# Altium schematic symbol library IND-CONST.SchLib: 1 symbol
Pins are listed as number, name and electrical type; pins without a type are passive.

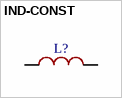
[diagram p0: symbol IND-CONST]

## IND-CONST
designator L?
footprint IND-8075
footprint CDRH127
footprint CDRH104R
footprint IND-1212
footprint IND-0603
footprint IND-1210
footprint IND-SRP0612
footprint IND-6045
footprint IND-5852
footprint IND-7850
footprint IND-5249
footprint IND-5652
footprint IND-1919
footprint IND-1207
footprint IND-4747
footprint IND-0805
footprint IND-1008-0.9
pins: 1, 2